# Altium footprint library shared_lib.PcbLib: 17 footprints (part 1 of 2)
Each footprint in its own frame and in the unit in brackets; x right, y up, seen from the top. Pads: shape width x height; smd on the part's side, far side on the other; paste and mask are expansions set on the pad; w line width, h text height; cw(c..) or ccw(c..) is an arc to the next point about the centre after c.
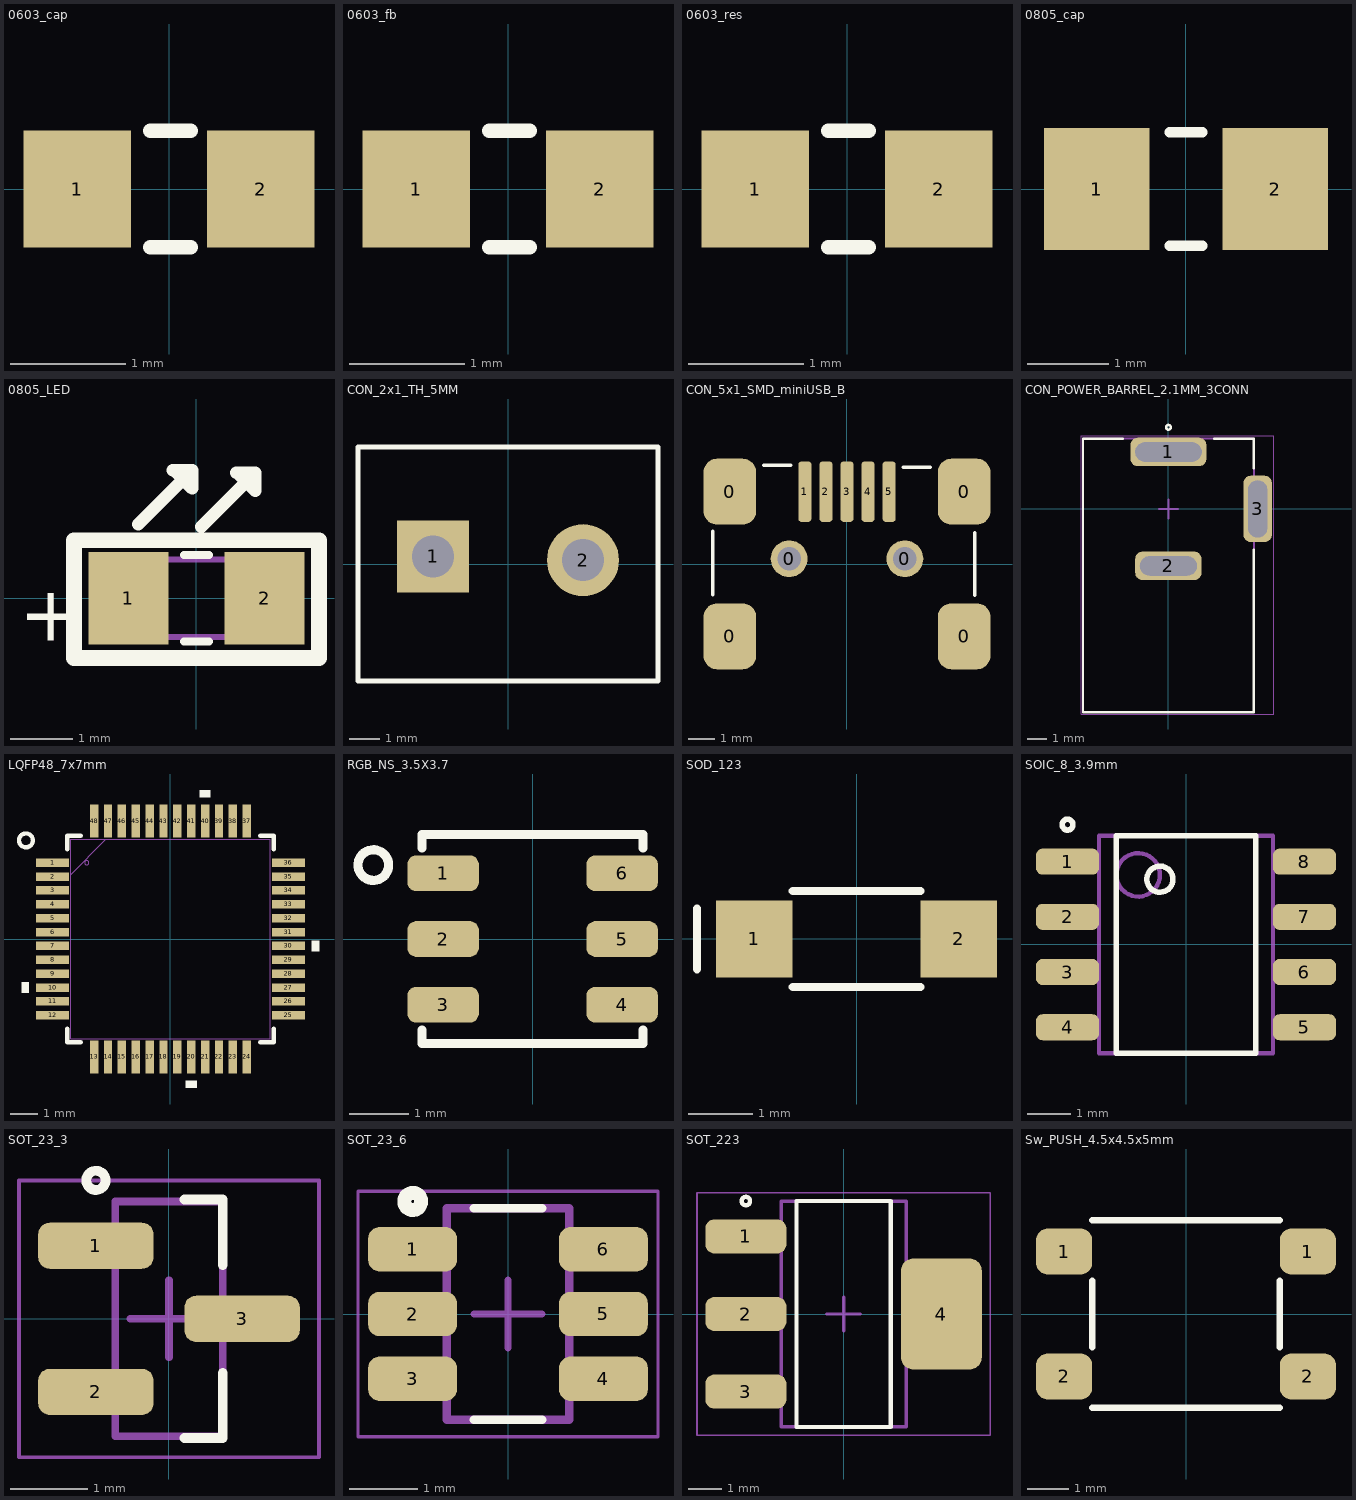
[diagram p0: the footprints below, top view; thin cyan lines are the x and y axes]

## 0603_cap [mil]
pads (2):
  rect 37x40 smd: 1(-31.5,0) 2(31.5,0)
Top Overlay:
  lines w5: -6.5,-20 7.5,-20 ; -6.5,20 7.5,20
3D body "CircuitWorks-CAPACITOR 0603.STEP": height 34.36, standoff 0.5, extent -31.5,-16.93 31.5,16.93

## 0603_fb [mil]
pads (2):
  rect 37x40 smd: 1(-31.5,0) 2(31.5,0)
Top Overlay:
  lines w5: -6.5,-20 7.5,-20 ; -6.5,20 7.5,20
3D body "742792602.stp": height 32, standoff 0.5, extent -31.5,-15.75 31.49,15.75

## 0603_res [mil] "1608 Metric / 20190225 / C-A.Serna.A"
pads (2):
  rect 37x40 smd: 1(-31.5,0) 2(31.5,0)
Top Overlay:
  lines w5: -6.5,-20 7.5,-20 ; -6.5,20 7.5,20
3D body "C0603.step": height 11.89, standoff 0, extent -31.5,-15.75 31.5,15.75

## 0805_cap [mm]
pads (2):
  rect 1.3x1.5 smd: 1(-1.1,0) 2(1.1,0)
Top Overlay:
  lines w0.127: -0.2,-0.7 0.2,-0.7 ; -0.2,0.7 0.2,0.7
3D body: height 1, standoff 0, extent -1.125,-0.7 1.075,0.7

## 0805_LED [mm]
pads (2):
  rect 1.3x1.5 smd: 1(-1.1,0) 2(1.1,0)
Top Overlay:
  lines w0.127: -0.2,-0.7 0.2,-0.7 ; -0.2,0.7 0.2,0.7
  lines w0.203: -0.941,1.197 -0.306,1.832 ; -0.38,2.072 -0.069,2.072 -0.069,1.775 -0.366,2.072 ; 0.079,1.157 0.714,1.792 ; 0.64,2.032 0.951,2.032 0.951,1.735 0.654,2.032
  lines w0.254: -1.981,-0.965 1.981,-0.965 1.981,0.94 -1.981,0.94 -1.981,-0.965
  text "+" at -2.87,-0.686 h0.89
Mechanical 1:
  lines w0.1: -0.7,-0.625 -0.7,0.625 ; 0.7,-0.625 0.7,0.625 ; -1,-0.625 1,-0.625 1,0.625 -1,0.625 -1,-0.625
3D body: height 1.1, standoff 0.5, extent -0.7,-0.625 0.7,0.625
3D body: height 0.5, standoff 0, extent -1,-0.625 1,0.625

## CON_2x1_TH_5MM [mm]
pads (2):
  rect 2.4x2.4 hole 1.4: 1(-2.5,0.254)
  round 2.4 hole 1.4: 2(2.5,0.127)
Top Overlay:
  lines w0.152: -5,-3.9 5,-3.9 5,3.9 -5,3.9 -5,-3.9
3D body: height 10.2, standoff 0, extent -5,-3.9 5,3.9

## CON_5x1_SMD_miniUSB_B [mm] "20190328 / V-A.Patino"
pads (11):
  rrect50% 2x2.5 smd: 0(-4.45,-2.75) 0(-4.45,2.75) 0(4.45,-2.75) 0(4.45,2.75)
  round 1.4 hole 0.889: 0(-2.2,0.2) 0(2.2,0.2)
  rrect50% 0.5x2.3 smd: 1(-1.6,2.75) 2(-0.8,2.75) 3(0,2.75) 4(0.8,2.75) 5(1.6,2.75)
Top Overlay:
  lines w0.127: -5.105,-1.172 -5.105,1.241 ; -3.175,3.756 -2.134,3.756 ; 2.134,3.68 3.175,3.68 ; 4.851,-1.197 4.851,1.191
3D body "usb_a-usb_b-m5-smd-c.stp": height 4, standoff -0.93, extent -5.102,-5.596 4.798,3.654

## CON_POWER_BARREL_2.1MM_3CONN [mm]
pads (3):
  rrect50% 4x1.5 hole 1.016 slot 3.5 at 0 deg: 1(0,3)
  rrect50% 3.5x1.5 hole 1.016 slot 3 at 0 deg: 2(0,-3)
  rrect50% 1.5x3.5 hole 1.016 slot 3 at 90 deg: 3(4.7,0)
Top Overlay:
  circle w0.127: c0,4.3 r0.125
  lines w0.127: -2.4,3.7 -4.5,3.7 -4.5,-10.7 4.5,-10.7 4.5,-2.15 ; 2.4,3.7 4.5,3.7 4.5,2.15
Mechanical 1:
  lines w0.1: -4.5,-10.7 -4.5,3.7 4.5,3.7 4.5,-10.7 -4.5,-10.7
Mechanical 15:
  lines w0.05: -4.6,-10.8 5.55,-10.8 5.55,3.85 -4.6,3.85 -4.6,-10.8
  lines w0.1: -0.5,0 0.5,0 ; 0,-0.5 0,0.5
3D body "pj-002a.stp": height 11, standoff -3.5, extent -4.5,-10.7 4.9,3.7

## LQFP48_7x7mm [mm]
pads (48):
  rect 1.194x0.305 smd paste+0 mask+0.046: 1(-4.25,2.75) 2(-4.25,2.25) 3(-4.25,1.75) 4(-4.25,1.25) 5(-4.25,0.75) 6(-4.25,0.25) 7(-4.25,-0.25) 8(-4.25,-0.75) 9(-4.25,-1.25) 10(-4.25,-1.75) 11(-4.25,-2.25) 12(-4.25,-2.75) 25(4.25,-2.75) 26(4.25,-2.25) 27(4.25,-1.75) 28(4.25,-1.25) 29(4.25,-0.75) 30(4.25,-0.25) 31(4.25,0.25) 32(4.25,0.75) 33(4.25,1.25) 34(4.25,1.75) 35(4.25,2.25) 36(4.25,2.75)
  rect 0.305x1.194 smd paste+0 mask+0.046: 13(-2.75,-4.25) 14(-2.25,-4.25) 15(-1.75,-4.25) 16(-1.25,-4.25) 17(-0.75,-4.25) 18(-0.25,-4.25) 19(0.25,-4.25) 20(0.75,-4.25) 21(1.25,-4.25) 22(1.75,-4.25) 23(2.25,-4.25) 24(2.75,-4.25) 37(2.75,4.25) 38(2.25,4.25) 39(1.75,4.25) 40(1.25,4.25) 41(0.75,4.25) 42(0.25,4.25) 43(-0.25,4.25) 44(-0.75,4.25) 45(-1.25,4.25) 46(-1.75,4.25) 47(-2.25,4.25) 48(-2.75,4.25)
Top Overlay:
  circle w0.152: c-5.207,3.556 r0.251
  region: 0.941,-5.101 0.56,-5.101 0.56,-5.355 0.941,-5.355
  region: 1.441,5.101 1.06,5.101 1.06,5.355 1.441,5.355
  region: 5.101,-0.059 5.355,-0.059 5.355,-0.44 5.101,-0.44
  region: -5.101,-1.559 -5.355,-1.559 -5.355,-1.94 -5.101,-1.94
  lines w0.152: -3.721,-3.235 -3.721,-3.721 -3.235,-3.721 ; -3.721,3.235 -3.721,3.721 -3.235,3.721 ; 3.235,-3.721 3.721,-3.721 3.721,-3.235 ; 3.235,3.721 3.721,3.721 3.721,3.235
Mechanical 13:
  circle w0: c-3.018,2.75 r0.076
  lines w0.025: -3.594,2.324 -2.324,3.594 ; -3.594,-3.594 -3.594,3.594 3.594,3.594 3.594,-3.594 -3.594,-3.594
3D body "LQFP48-7x7mm.step": height 1.6, standoff 0, extent -4.497,-4.497 4.497,4.497

## RGB_NS_3.5X3.7 [mm] "20220901/V-A.Patino"
pads (6):
  rrect50% 1.2x0.6 smd: 1(-1.5,1.1) 2(-1.5,0) 3(-1.5,-1.1) 4(1.5,-1.1) 5(1.5,0) 6(1.5,1.1)
Top Overlay:
  circle w0.152: c-2.669,1.238 r0.257
  lines w0.152: -1.85,-1.524 -1.85,-1.75 1.85,-1.75 1.85,-1.524 ; -1.85,1.524 -1.85,1.75 1.85,1.75 1.85,1.524
3D body: height 1, standoff 0, extent -1.849,-1.744 1.849,1.751

## SOD_123 [mm] "/ 20191030 / V-A.Patino"
pads (2):
  rect 1.2x1.2 smd: 1(-1.6,0) 2(1.6,0)
Top Overlay:
  lines w0.127: -2.5,-0.475 -2.5,0.475 ; -1,-0.75 1,-0.75 ; -1,0.749 1,0.749
3D body "SOD123.step": height 1.28, standoff 0.01, extent -1.926,-0.8 1.774,0.8

## SOIC_8_3.9mm [mm]
pads (8):
  rrect50% 1.45x0.6 smd: 1(-2.725,1.905) 2(-2.725,0.635) 3(-2.725,-0.635) 4(-2.725,-1.905) 5(2.725,-1.905) 6(2.725,-0.635) 7(2.725,0.635) 8(2.725,1.905)
Top Overlay:
  circle w0.127: c-2.725,2.755 r0.125
  circle w0.127: c-0.6,1.5 r0.3
  lines w0.127: -1.6,-2.5 -1.6,2.5 1.6,2.5 1.6,-2.5 -1.6,-2.5
Mechanical 1:
  circle w0.1: c-1.1,1.6 r0.5
  lines w0.1: -2,-2.5 2,-2.5 2,2.5 -2,2.5 -2,-2.5
3D body "SOIC127P600X173-8N.step": height 1.73, standoff 0, extent -3.01,-2.5 3.01,2.5

## SOT_23_3 [mm] "TO-236-3, SC-59/ 20220901 / V-A.Patino"
pads (3):
  rrect50% 1.5x0.6 smd: 1(-0.95,0.95) 2(-0.95,-0.95) 3(0.95,0)
Top Overlay:
  circle w0.127: c-0.95,1.8 r0.125
  lines w0.127: 0.2,-1.55 0.7,-1.55 0.7,-0.7 ; 0.2,1.55 0.7,1.55 0.7,0.7
Mechanical 1:
  lines w0.1: -0.7,-1.525 0.7,-1.525 0.7,1.525 -0.7,1.525 -0.7,-1.525
Mechanical 15:
  lines w0.05: -1.95,-1.8 -1.95,1.8 1.95,1.8 1.95,-1.8 -1.95,-1.8
  lines w0.1: -0.5,0 0.5,0 ; 0,-0.5 0,0.5
3D body: height 1.12, standoff 0.01, extent -0.7,-1.525 0.7,1.525

## SOT_23_6 [mm] "/ 20190225 / V-A.Patino"
height 1.45
pads (6):
  rrect50% 1.3x0.65 smd: 1(-1.4,0.95) 2(-1.4,0) 3(-1.4,-0.95) 4(1.4,-0.95) 5(1.4,0) 6(1.4,0.95)
Top Overlay:
  circle w0.203: c-1.397,1.651 r0.125
  lines w0.127: -0.5,-1.55 0.5,-1.55 ; -0.5,1.55 0.5,1.55
Mechanical 1:
  lines w0.127: -0.9,-1.55 -0.9,1.55 0.9,1.55 0.9,-1.55 -0.9,-1.55
Mechanical 15:
  lines w0.05: -2.2,-1.8 2.2,-1.8 2.2,1.8 -2.2,1.8 -2.2,-1.8
  lines w0.1: -0.5,0 0.5,0 ; 0,-0.5 0,0.5
3D body "SOT23-6-2.step": height 1.45, standoff 0, extent -1.501,-1.45 1.299,1.45

## SOT_223 [mm] "TO-261-4, TO-261AA / 20220901/ V-A.Patino"
height 1.45
pads (4):
  rrect50% 2.4x1 smd: 1(-2.9,2.3) 2(-2.9,0) 3(-2.9,-2.3)
  rrect30% 2.4x3.3 smd: 4(2.9,0)
Top Overlay:
  circle w0.127: c-2.9,3.35 r0.125
  lines w0.127: -1.4,-3.35 1.4,-3.35 1.4,3.35 -1.4,3.35 -1.4,-3.35
Mechanical 1:
  lines w0.1: -1.855,-3.35 1.855,-3.35 1.855,3.35 -1.855,3.35 -1.855,-3.35
Mechanical 15:
  lines w0.05: -4.35,-3.6 4.35,-3.6 4.35,3.6 -4.35,3.6 -4.35,-3.6
  lines w0.1: -0.5,0 0.5,0 ; 0,-0.5 0,0.5
3D body: height 1.8, standoff 0.03, extent -1.855,-3.35 1.855,3.35

## Sw_PUSH_4.5x4.5x5mm [mm]
pads (4):
  rrect50% 1.35x1.1 smd: 1(-2.925,1.5) 1(2.925,1.5) 2(-2.925,-1.5) 2(2.925,-1.5)
Top Overlay:
  lines w0.152: -2.25,-2.25 2.25,-2.25 ; -2.25,-0.8 -2.25,0.8 ; -2.25,2.25 2.25,2.25 ; 2.25,-0.8 2.25,0.8
3D body: height 2.75, standoff 0, extent -2.25,-2.25 2.25,2.25
3D body: height 5, standoff 0, extent -1.22,-1.22 1.22,1.22